# Altium schematic symbol library Schlib1.SchLib: 12 symbols
Pins are listed as number, name and electrical type; pins without a type are passive.

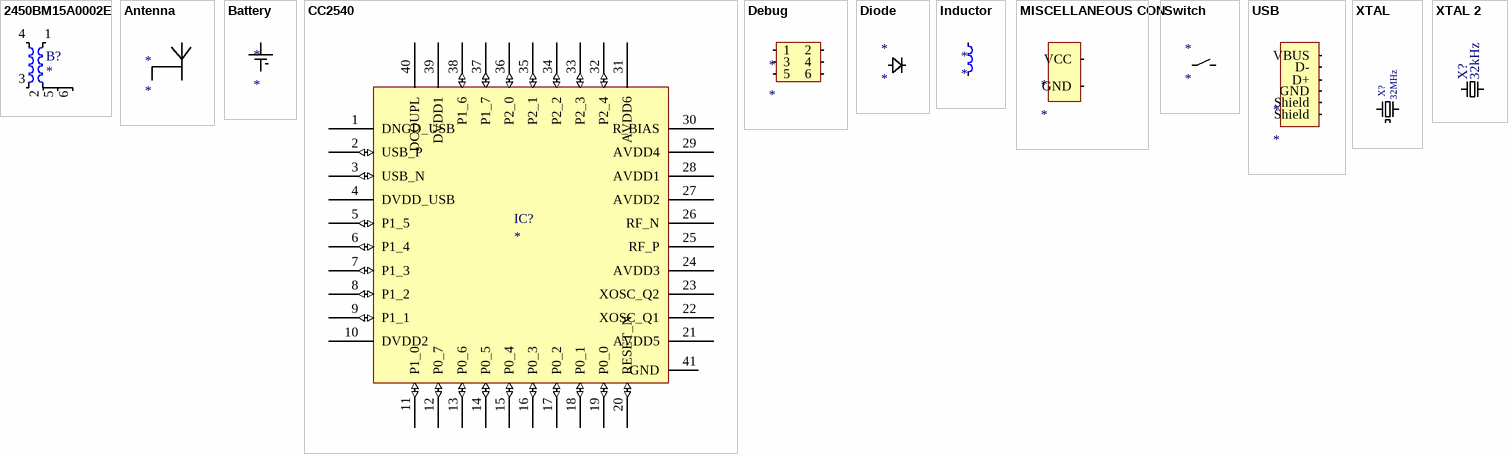
[diagram p0: symbols 2450BM15A0002E to XTAL 2]

## 2450BM15A0002E
designator B?
BALUN FILTER, 2.45GHZ
footprint Balun Filter
pins: 1  , 2  , 3  , 4  , 5  , 6  

## Antenna
designator *  (net tie, no BOM)
footprint Antenna
pins: 1, 2

## Battery
designator *
footprint Misscelaneous con
pins: 0 +, 1 -

## CC2540
designator IC?
BLE SoC, 128RHAS, 8051, VQFN-40
footprint QFN50P600X600X100_HS-41N_LATEST (QFN, 40-Leads, Body 6,00x6,00mm, Pitch 0,50mm, Thermal Pad 4,50x4,50mm, IPC Medium Density)
pins: 1 DNGD_USB, 2 USB_P (io), 3 USB_N (io), 4 DVDD_USB, 5 P1_5 (io), 6 P1_4 (io), 7 P1_3 (io), 8 P1_2 (io), 9 P1_1 (io), 10 DVDD2, 11 P1_0 (io), 12 P0_7 (io), 13 P0_6 (io), 14 P0_5 (io), 15 P0_4 (io), 16 P0_3 (io), 17 P0_2 (io), 18 P0_1 (io), 19 P0_0 (io), 20 RESET_N (io), 21 AVDD5, 22 XOSC_Q1, 23 XOSC_Q2, 24 AVDD3, 25 RF_P, 26 RF_N, 27 AVDD2, 28 AVDD1, 29 AVDD4, 30 R_BIAS, 31 AVDD6, 32 P2_4 (io), 33 P2_3 (io), 34 P2_2 (io), 35 P2_1 (io), 36 P2_0 (io), 37 P1_7 (io), 38 P1_6 (io), 39 DVDD1, 40 DCOUPL, 41 GND

## Debug
designator *
footprint DEBUG
pins: 1, 2, 3, 4, 5, 6

## Diode
designator *
footprint Diode
pins: A, K

## Inductor
designator *
footprint 0402 (Chip Capacitor, 2-Leads, Body 1,00x0,50mm, IPC Medium Density)
pins: 1, 2

## MISCELLANEOUS CON
designator *
footprint Misscelaneous con
pins: 0 VCC, 1 GND

## Switch
designator *
footprint Switch
pins: 1, 2

## USB
designator *
footprint USB
pins: 0 VBUS, 1 D-, 2 D+, 3 GND, 4 Shield, 5 Shield

## XTAL
designator X?, comment 32MHz
footprint XTAL (5 x 3.2 mm SMD)
pins: 1, 2, 3, 4

## XTAL 2
designator X?, comment 32kHz
footprint XTAL 2
pins: 1, 2